# EAGLE library part 74HC2G17-Q100 (library varshneya)
Dual schmitt non-inverting buffer
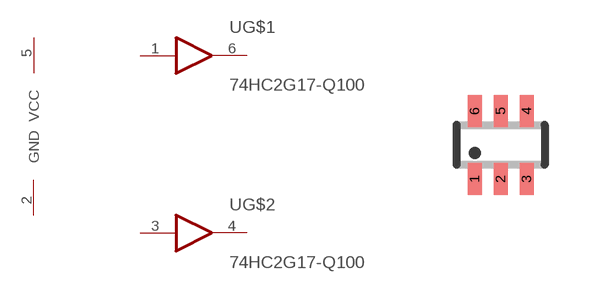
[diagram p0: symbol with the pads of SC-70-6L; footprint SC-70-6L]

Designator prefix -; gates G$1=BUFFER G$2=BUFFER G$3=POWER-PINS

## 74HC2G17-Q100  [SC-70-6L]
1  G$1:I  in
2  G$3:GND
3  G$2:I  in
4  G$2:O  out
5  G$3:VCC
6  G$1:O  out

## Footprint SC-70-6L (pad centres in mm)
SC-70-6L
smd 0.35 x 0.8: 1 -0.65,-0.85; 2 0,-0.85; 3 0.65,-0.85; 4 0.65,0.85; 5 0,0.85; 6 -0.65,0.85